# Altium footprint library 3mm IR LED.PcbLib: 1 footprints
Each footprint in its own frame and in the unit in brackets; x right, y up, seen from the top. Pads: shape width x height; smd on the part's side, far side on the other; paste and mask are expansions set on the pad; w line width, h text height; cw(c..) or ccw(c..) is an arc to the next point about the centre after c.
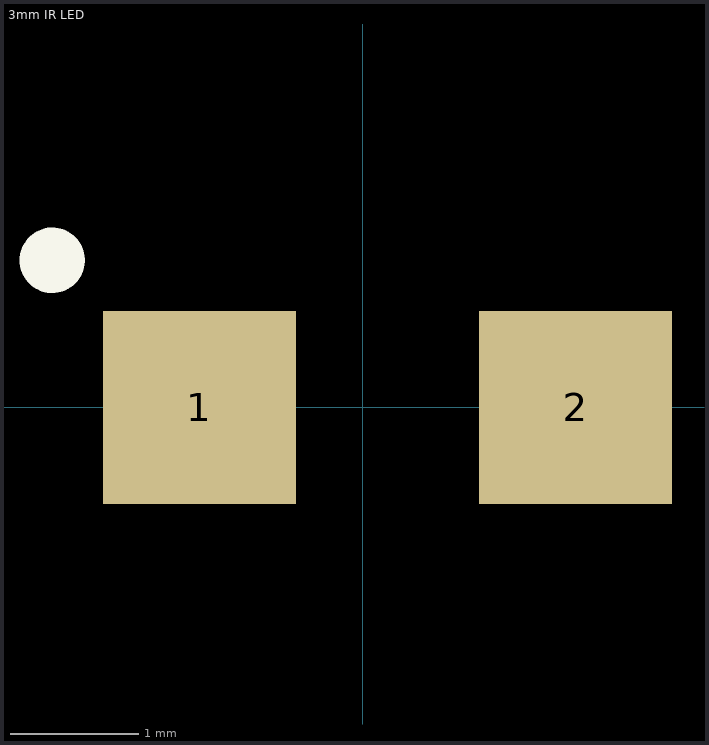
[diagram p0: the footprint, top view; thin cyan lines are the x and y axes]

## 3mm IR LED [mm]
pads (2):
  rect 1.5x1.5 smd: 1(-1.27,0) 2(1.651,0)
Top Overlay:
  circle w0.254: c-2.413,1.143 r0.127